# EAGLE library part HOA0901 (library honeywell)
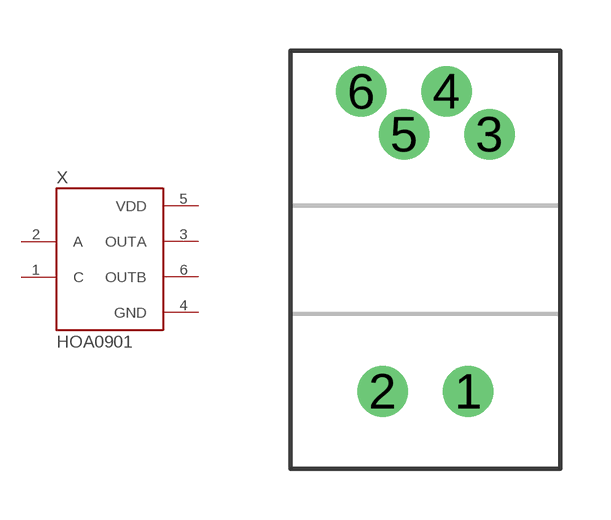
[diagram p0: symbol with the pads of HOA0901-011; footprint HOA0901-011]

Designator prefix X

## HOA0901-011  [HOA0901-011]
1  C  pas
2  A  pas
3  OUTA  pas
4  GND  pas
5  VDD  pas
6  OUTB  pas

## Footprint HOA0901-011 (pad centres in mm)
drill 0.8 pad 1.5: 1 1.27,-3.9; 2 -1.27,-3.9; 3 1.9,3.72; 4 0.63,4.99; 5 -0.63,3.72; 6 -1.9,4.99